# Altium footprint library 4_1775099_0.PcbLib: 1 footprints
Each footprint in its own frame and in the unit in brackets; x right, y up, seen from the top. Pads: shape width x height; smd on the part's side, far side on the other; paste and mask are expansions set on the pad; w line width, h text height; cw(c..) or ccw(c..) is an arc to the next point about the centre after c.
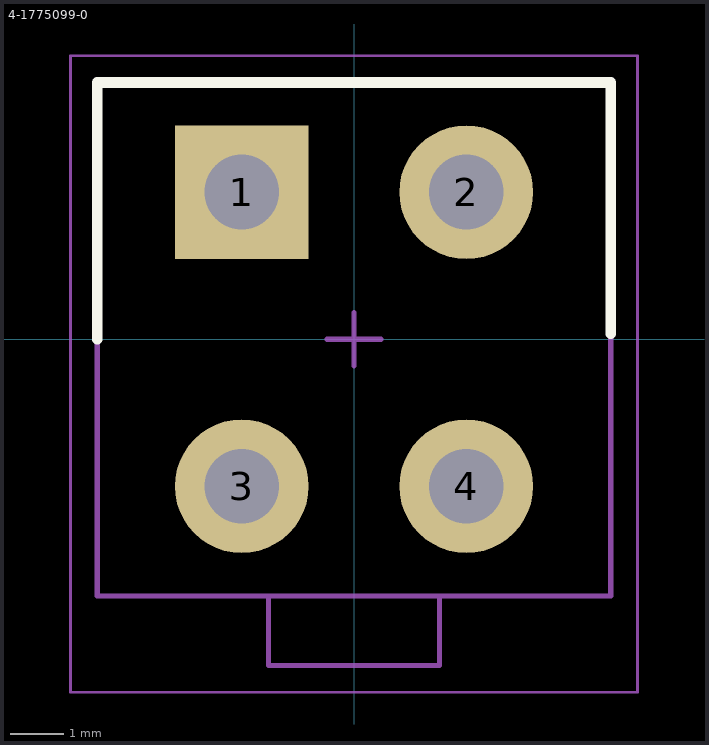
[diagram p0: the footprint, top view; thin cyan lines are the x and y axes]

## 4-1775099-0 [mm]
height 12.8
pads (4):
  rect 2.5x2.5 hole 1.4: 1(-2.1,2.75)
  round 2.5 hole 1.4: 2(2.1,2.75) 3(-2.1,-2.75) 4(2.1,-2.75)
Top Overlay:
  lines w0.2: -4.8,0 -4.8,4.8 0,4.8 4.8,4.8 4.8,0.1
Top Comment:
  text ".Comment" at 1,6 h1.2
Top Designator:
  text ".Designator" at -0.5,6 h1.2
Top Component Outline:
  lines w0.1: 1.6,-4.8 1.6,-6.1 -1.6,-6.1 -1.6,-4.8 4.8,-4.8 ; 4.8,-4.8 -4.8,-4.8 -4.8,4.8 -1.1,4.8 4.7,4.8 4.8,4.8 4.8,-4.8
Top Courtyard (Mech15):
  lines w0.05: -5.3,-6.6 5.3,-6.6 5.3,5.3 -0.9,5.3 -5.3,5.3 -5.3,-6.6
  lines w0.1: -0.5,0 0.5,0 ; 0,-0.5 0,0.5
3D body "c-4-1775099-0-e-3d.stp": height 12.8, standoff -3.2, extent -5.1,-6.1 4.75,4.8